# Altium integrated library Linear Technology Power Management uModule Regulators.IntLib: 166 symbols (part 49 of 67)
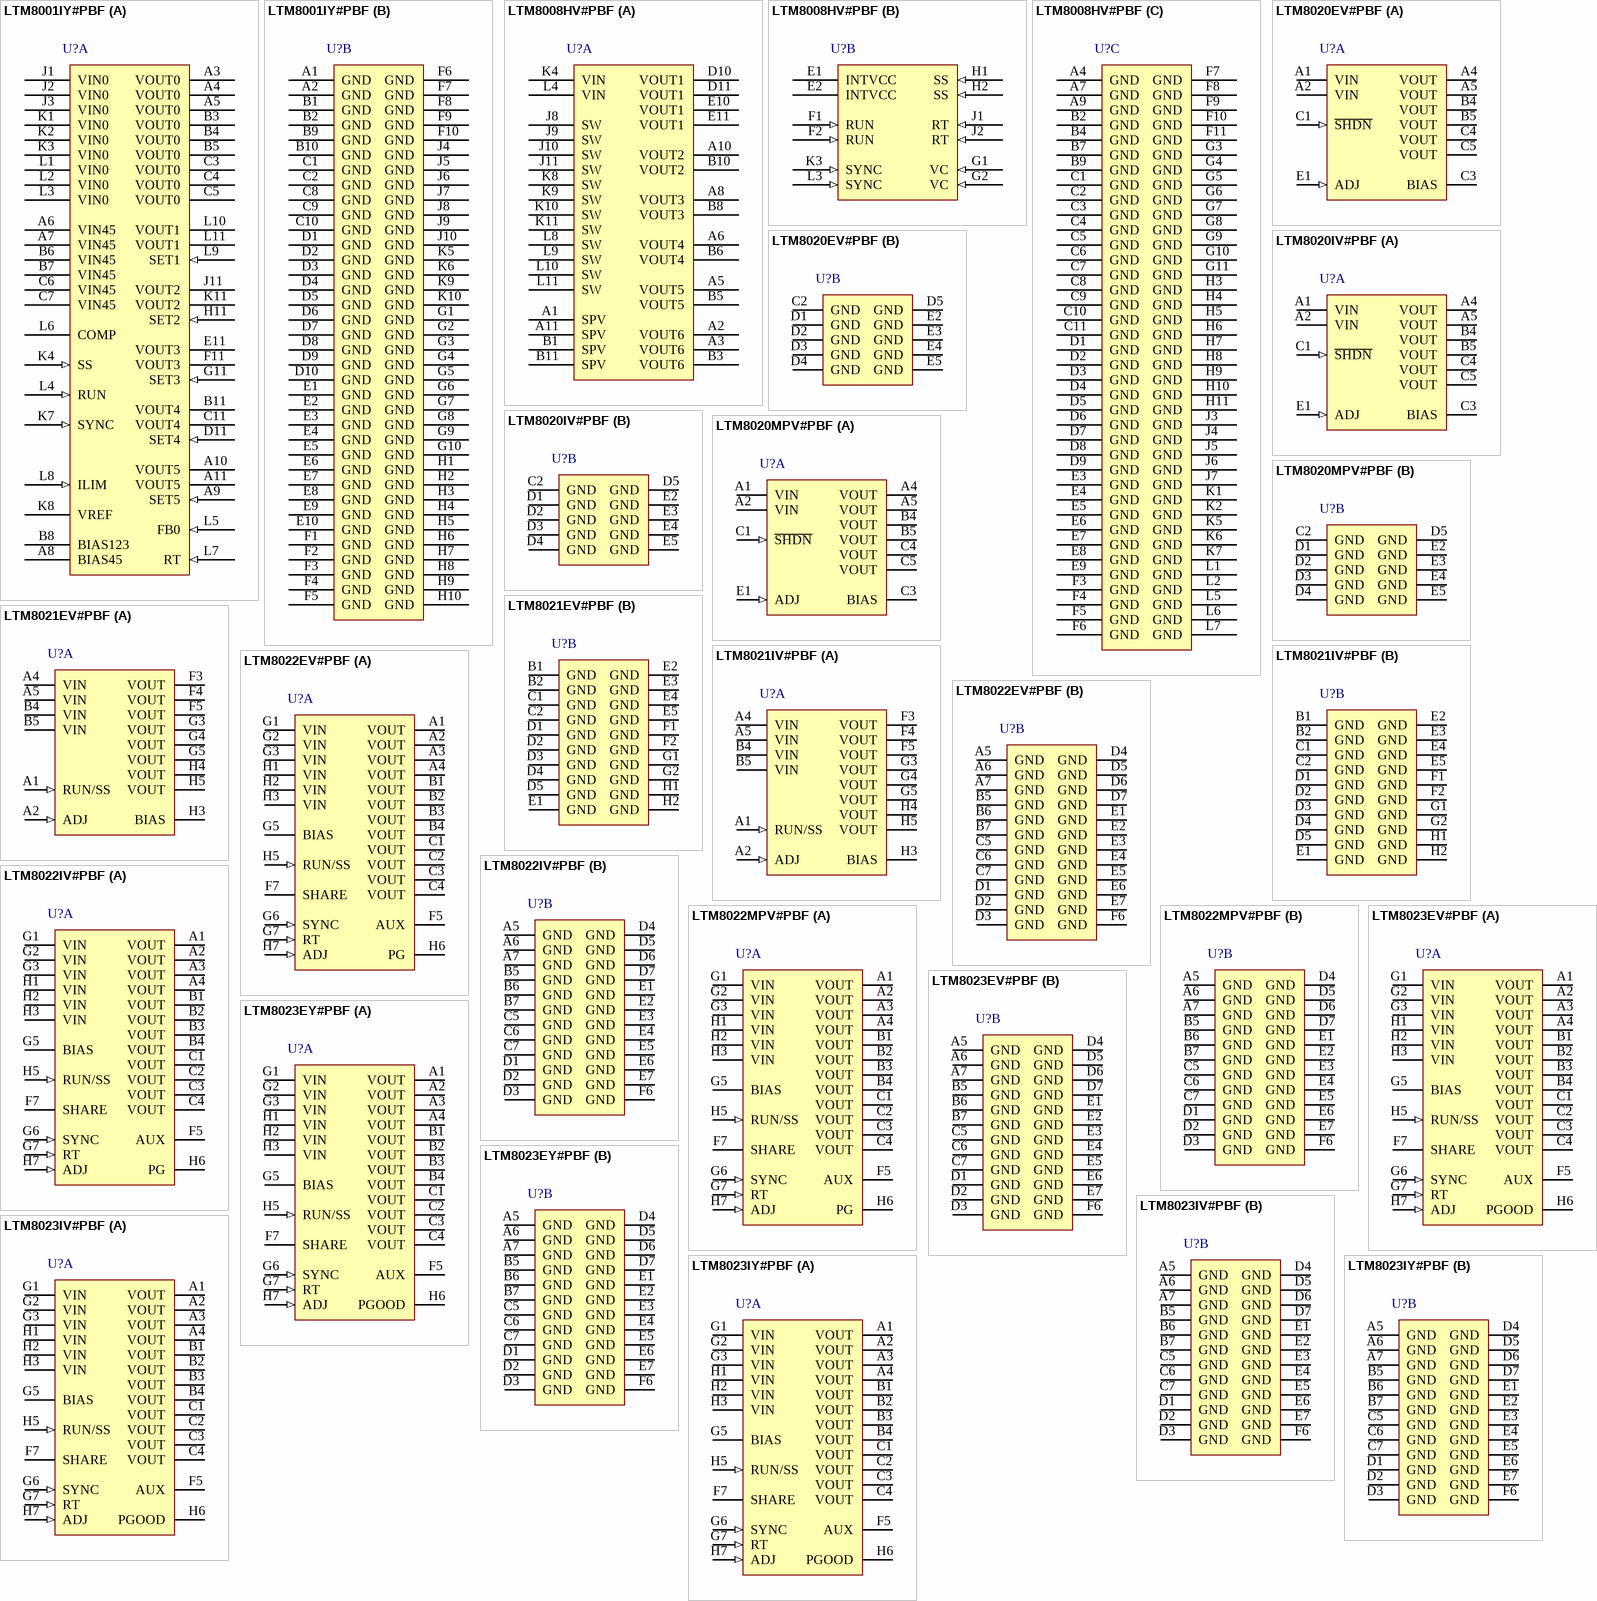
[diagram p75: symbols LTM8001IY#PBF to LTM8023IY#PBF]

## LTM8021EV#PBF
designator U?
36 VIN, 500 mA Step-Down DC/DC uModule, 35-pin LGA, -40 to 125 degC, Pb-Free, Tray; Manufacturer: Linear Technology; PartNumber: LTM8021EV#PBF; Extended Temp: E, I; Frequency(kHz): 1100; Ishutdown(uA): 0.1; Isupply(mA): 1.5; Number of Outputs: 1; Output Current(A): 0.5; Switch Current(A): 0.9; Synchronous: no; Topology: Buck; Vin Max(V): 36; Vin Min(V): 3; Vout Max(V): 5; Vout Min(V): 0.8; DatasheetVersion: Rev. C; PackageVersion: Rev. B, 02/2013; PackageReference: LGA-35; PackageDescription: 35-Pin LGA, Body 11.25 x 6.25 mm, Pitch 1.27 mm; Supplier 1: Digi-Key; Supplier Part Number 1: LTM8021EV#PBF-ND; Supplier 2: Farnell; Supplier Part Number 2: 1673558; Supplier 3: Newark; Supplier Part Number 3: 01P1603; Packing: Tray; RoHS: TRUE; Tracking: no; Mounting Technology: Surface Mount; Code_JEDEC: MO-222; ComponentLink1Description: Manufacturer URL; ComponentLink1URL: http://www.linear.com/; ComponentLink2Description: Datasheet; ComponentLink2URL: http://cds.linear.com/docs/en/datasheet/8021fc.pdf; ComponentLink3Description: Package Specification; ComponentLink3URL: http://cds.linear.com/docs/en/packaging/05081805_B_lga35.pdf
footprint LT-LGA-35-11250X6250X2820_V (LGA, 35-Leads, Body 11.25x6.25mm, Pitch 1.27mm)
part A pins: A1 RUN/SS (in) "Tie RUN/SS pin to ground to shut down the LTM8021. Tie to 1.6V or more for normal operation. If the shutdown feature is not used, tie this pin to the VIN pin. The RUN/SS also provides soft-start and frequency foldback. To (See Datasheet)", A2 ADJ (in) "The LTM8021 regulates its ADJ pin to 0.8V. Connect the adjust resistor from this pin to ground. The value of RADJ is given by the equation, RADJ = 80/(VOUT - 0.8), where RADJ is in k.", A4 VIN (power) "The VIN pin supplies current to the LTM8021’s internal regulator and to the internal power switch. This pin must be locally bypassed with an external, low ESR capacitor of at least 1uF.", A5 VIN (power) "The VIN pin supplies current to the LTM8021’s internal regulator and to the internal power switch. This pin must be locally bypassed with an external, low ESR capacitor of at least 1uF.", B4 VIN (power) "The VIN pin supplies current to the LTM8021’s internal regulator and to the internal power switch. This pin must be locally bypassed with an external, low ESR capacitor of at least 1uF.", B5 VIN (power) "The VIN pin supplies current to the LTM8021’s internal regulator and to the internal power switch. This pin must be locally bypassed with an external, low ESR capacitor of at least 1uF.", F3 VOUT (power) "Power Output Pins. An external capacitor is connected from VOUT to GND in most applications. Apply output load between these pins and GND pins.", F4 VOUT (power) "Power Output Pins. An external capacitor is connected from VOUT to GND in most applications. Apply output load between these pins and GND pins.", F5 VOUT (power) "Power Output Pins. An external capacitor is connected from VOUT to GND in most applications. Apply output load between these pins and GND pins.", G3 VOUT (power) "Power Output Pins. An external capacitor is connected from VOUT to GND in most applications. Apply output load between these pins and GND pins.", G4 VOUT (power) "Power Output Pins. An external capacitor is connected from VOUT to GND in most applications. Apply output load between these pins and GND pins.", G5 VOUT (power) "Power Output Pins. An external capacitor is connected from VOUT to GND in most applications. Apply output load between these pins and GND pins.", H3 BIAS (power) "The BIAS pin connects to the internal boost Schottky diode and to the internal regulator. Tie to VOUT when VOUT > 3V or to another DC voltage greater than 3V otherwise. When BIAS > 3V the internal circuitry will be powered (See Datasheet)", H4 VOUT (power) "Power Output Pins. An external capacitor is connected from VOUT to GND in most applications. Apply output load between these pins and GND pins.", H5 VOUT (power) "Power Output Pins. An external capacitor is connected from VOUT to GND in most applications. Apply output load between these pins and GND pins."
part B pins: B1 GND (power) "The GND connections serve as the main signal return and the primary heat sink for the LTM8021. Tie the GND pins to a local ground plane below the LTM8021 and the circuit components. Return the feedback divider to this signal.", B2 GND (power) "The GND connections serve as the main signal return and the primary heat sink for the LTM8021. Tie the GND pins to a local ground plane below the LTM8021 and the circuit components. Return the feedback divider to this signal.", C1 GND (power) "The GND connections serve as the main signal return and the primary heat sink for the LTM8021. Tie the GND pins to a local ground plane below the LTM8021 and the circuit components. Return the feedback divider to this signal.", C2 GND (power) "The GND connections serve as the main signal return and the primary heat sink for the LTM8021. Tie the GND pins to a local ground plane below the LTM8021 and the circuit components. Return the feedback divider to this signal.", D1 GND (power) "The GND connections serve as the main signal return and the primary heat sink for the LTM8021. Tie the GND pins to a local ground plane below the LTM8021 and the circuit components. Return the feedback divider to this signal.", D2 GND (power) "The GND connections serve as the main signal return and the primary heat sink for the LTM8021. Tie the GND pins to a local ground plane below the LTM8021 and the circuit components. Return the feedback divider to this signal.", D3 GND (power) "The GND connections serve as the main signal return and the primary heat sink for the LTM8021. Tie the GND pins to a local ground plane below the LTM8021 and the circuit components. Return the feedback divider to this signal.", D4 GND (power) "The GND connections serve as the main signal return and the primary heat sink for the LTM8021. Tie the GND pins to a local ground plane below the LTM8021 and the circuit components. Return the feedback divider to this signal.", D5 GND (power) "The GND connections serve as the main signal return and the primary heat sink for the LTM8021. Tie the GND pins to a local ground plane below the LTM8021 and the circuit components. Return the feedback divider to this signal.", E1 GND (power) "The GND connections serve as the main signal return and the primary heat sink for the LTM8021. Tie the GND pins to a local ground plane below the LTM8021 and the circuit components. Return the feedback divider to this signal.", E2 GND (power) "The GND connections serve as the main signal return and the primary heat sink for the LTM8021. Tie the GND pins to a local ground plane below the LTM8021 and the circuit components. Return the feedback divider to this signal.", E3 GND (power) "The GND connections serve as the main signal return and the primary heat sink for the LTM8021. Tie the GND pins to a local ground plane below the LTM8021 and the circuit components. Return the feedback divider to this signal.", E4 GND (power) "The GND connections serve as the main signal return and the primary heat sink for the LTM8021. Tie the GND pins to a local ground plane below the LTM8021 and the circuit components. Return the feedback divider to this signal.", E5 GND (power) "The GND connections serve as the main signal return and the primary heat sink for the LTM8021. Tie the GND pins to a local ground plane below the LTM8021 and the circuit components. Return the feedback divider to this signal.", F1 GND (power) "The GND connections serve as the main signal return and the primary heat sink for the LTM8021. Tie the GND pins to a local ground plane below the LTM8021 and the circuit components. Return the feedback divider to this signal.", F2 GND (power) "The GND connections serve as the main signal return and the primary heat sink for the LTM8021. Tie the GND pins to a local ground plane below the LTM8021 and the circuit components. Return the feedback divider to this signal.", G1 GND (power) "The GND connections serve as the main signal return and the primary heat sink for the LTM8021. Tie the GND pins to a local ground plane below the LTM8021 and the circuit components. Return the feedback divider to this signal.", G2 GND (power) "The GND connections serve as the main signal return and the primary heat sink for the LTM8021. Tie the GND pins to a local ground plane below the LTM8021 and the circuit components. Return the feedback divider to this signal.", H1 GND (power) "The GND connections serve as the main signal return and the primary heat sink for the LTM8021. Tie the GND pins to a local ground plane below the LTM8021 and the circuit components. Return the feedback divider to this signal.", H2 GND (power) "The GND connections serve as the main signal return and the primary heat sink for the LTM8021. Tie the GND pins to a local ground plane below the LTM8021 and the circuit components. Return the feedback divider to this signal."

## LTM8021IV#PBF
designator U?
36 VIN, 500 mA Step-Down DC/DC uModule, 35-pin LGA, -40 to 125 degC, Pb-Free, Tray; Manufacturer: Linear Technology; PartNumber: LTM8021IV#PBF; Extended Temp: E, I; Frequency(kHz): 1100; Ishutdown(uA): 0.1; Isupply(mA): 1.5; Number of Outputs: 1; Output Current(A): 0.5; Switch Current(A): 0.9; Synchronous: no; Topology: Buck; Vin Max(V): 36; Vin Min(V): 3; Vout Max(V): 5; Vout Min(V): 0.8; DatasheetVersion: Rev. C; PackageVersion: Rev. B, 02/2013; PackageReference: LGA-35; PackageDescription: 35-Pin LGA, Body 11.25 x 6.25 mm, Pitch 1.27 mm; Supplier 1: Digi-Key; Supplier Part Number 1: LTM8021IV#PBF-ND; Supplier 2: Farnell; Supplier Part Number 2: 1799825; Supplier 3: Newark; Supplier Part Number 3: 15N3618; Packing: Tray; RoHS: TRUE; Tracking: no; Mounting Technology: Surface Mount; Code_JEDEC: MO-222; ComponentLink1Description: Manufacturer URL; ComponentLink1URL: http://www.linear.com/; ComponentLink2Description: Datasheet; ComponentLink2URL: http://cds.linear.com/docs/en/datasheet/8021fc.pdf; ComponentLink3Description: Package Specification; ComponentLink3URL: http://cds.linear.com/docs/en/packaging/05081805_B_lga35.pdf
footprint LT-LGA-35-11250X6250X2820_V (LGA, 35-Leads, Body 11.25x6.25mm, Pitch 1.27mm)
part A pins: A1 RUN/SS (in) "Tie RUN/SS pin to ground to shut down the LTM8021. Tie to 1.6V or more for normal operation. If the shutdown feature is not used, tie this pin to the VIN pin. The RUN/SS also provides soft-start and frequency foldback. To (See Datasheet)", A2 ADJ (in) "The LTM8021 regulates its ADJ pin to 0.8V. Connect the adjust resistor from this pin to ground. The value of RADJ is given by the equation, RADJ = 80/(VOUT - 0.8), where RADJ is in k.", A4 VIN (power) "The VIN pin supplies current to the LTM8021’s internal regulator and to the internal power switch. This pin must be locally bypassed with an external, low ESR capacitor of at least 1uF.", A5 VIN (power) "The VIN pin supplies current to the LTM8021’s internal regulator and to the internal power switch. This pin must be locally bypassed with an external, low ESR capacitor of at least 1uF.", B4 VIN (power) "The VIN pin supplies current to the LTM8021’s internal regulator and to the internal power switch. This pin must be locally bypassed with an external, low ESR capacitor of at least 1uF.", B5 VIN (power) "The VIN pin supplies current to the LTM8021’s internal regulator and to the internal power switch. This pin must be locally bypassed with an external, low ESR capacitor of at least 1uF.", F3 VOUT (power) "Power Output Pins. An external capacitor is connected from VOUT to GND in most applications. Apply output load between these pins and GND pins.", F4 VOUT (power) "Power Output Pins. An external capacitor is connected from VOUT to GND in most applications. Apply output load between these pins and GND pins.", F5 VOUT (power) "Power Output Pins. An external capacitor is connected from VOUT to GND in most applications. Apply output load between these pins and GND pins.", G3 VOUT (power) "Power Output Pins. An external capacitor is connected from VOUT to GND in most applications. Apply output load between these pins and GND pins.", G4 VOUT (power) "Power Output Pins. An external capacitor is connected from VOUT to GND in most applications. Apply output load between these pins and GND pins.", G5 VOUT (power) "Power Output Pins. An external capacitor is connected from VOUT to GND in most applications. Apply output load between these pins and GND pins.", H3 BIAS (power) "The BIAS pin connects to the internal boost Schottky diode and to the internal regulator. Tie to VOUT when VOUT > 3V or to another DC voltage greater than 3V otherwise. When BIAS > 3V the internal circuitry will be powered (See Datasheet)", H4 VOUT (power) "Power Output Pins. An external capacitor is connected from VOUT to GND in most applications. Apply output load between these pins and GND pins.", H5 VOUT (power) "Power Output Pins. An external capacitor is connected from VOUT to GND in most applications. Apply output load between these pins and GND pins."
part B pins: B1 GND (power) "The GND connections serve as the main signal return and the primary heat sink for the LTM8021. Tie the GND pins to a local ground plane below the LTM8021 and the circuit components. Return the feedback divider to this signal.", B2 GND (power) "The GND connections serve as the main signal return and the primary heat sink for the LTM8021. Tie the GND pins to a local ground plane below the LTM8021 and the circuit components. Return the feedback divider to this signal.", C1 GND (power) "The GND connections serve as the main signal return and the primary heat sink for the LTM8021. Tie the GND pins to a local ground plane below the LTM8021 and the circuit components. Return the feedback divider to this signal.", C2 GND (power) "The GND connections serve as the main signal return and the primary heat sink for the LTM8021. Tie the GND pins to a local ground plane below the LTM8021 and the circuit components. Return the feedback divider to this signal.", D1 GND (power) "The GND connections serve as the main signal return and the primary heat sink for the LTM8021. Tie the GND pins to a local ground plane below the LTM8021 and the circuit components. Return the feedback divider to this signal.", D2 GND (power) "The GND connections serve as the main signal return and the primary heat sink for the LTM8021. Tie the GND pins to a local ground plane below the LTM8021 and the circuit components. Return the feedback divider to this signal.", D3 GND (power) "The GND connections serve as the main signal return and the primary heat sink for the LTM8021. Tie the GND pins to a local ground plane below the LTM8021 and the circuit components. Return the feedback divider to this signal.", D4 GND (power) "The GND connections serve as the main signal return and the primary heat sink for the LTM8021. Tie the GND pins to a local ground plane below the LTM8021 and the circuit components. Return the feedback divider to this signal.", D5 GND (power) "The GND connections serve as the main signal return and the primary heat sink for the LTM8021. Tie the GND pins to a local ground plane below the LTM8021 and the circuit components. Return the feedback divider to this signal.", E1 GND (power) "The GND connections serve as the main signal return and the primary heat sink for the LTM8021. Tie the GND pins to a local ground plane below the LTM8021 and the circuit components. Return the feedback divider to this signal.", E2 GND (power) "The GND connections serve as the main signal return and the primary heat sink for the LTM8021. Tie the GND pins to a local ground plane below the LTM8021 and the circuit components. Return the feedback divider to this signal.", E3 GND (power) "The GND connections serve as the main signal return and the primary heat sink for the LTM8021. Tie the GND pins to a local ground plane below the LTM8021 and the circuit components. Return the feedback divider to this signal.", E4 GND (power) "The GND connections serve as the main signal return and the primary heat sink for the LTM8021. Tie the GND pins to a local ground plane below the LTM8021 and the circuit components. Return the feedback divider to this signal.", E5 GND (power) "The GND connections serve as the main signal return and the primary heat sink for the LTM8021. Tie the GND pins to a local ground plane below the LTM8021 and the circuit components. Return the feedback divider to this signal.", F1 GND (power) "The GND connections serve as the main signal return and the primary heat sink for the LTM8021. Tie the GND pins to a local ground plane below the LTM8021 and the circuit components. Return the feedback divider to this signal.", F2 GND (power) "The GND connections serve as the main signal return and the primary heat sink for the LTM8021. Tie the GND pins to a local ground plane below the LTM8021 and the circuit components. Return the feedback divider to this signal.", G1 GND (power) "The GND connections serve as the main signal return and the primary heat sink for the LTM8021. Tie the GND pins to a local ground plane below the LTM8021 and the circuit components. Return the feedback divider to this signal.", G2 GND (power) "The GND connections serve as the main signal return and the primary heat sink for the LTM8021. Tie the GND pins to a local ground plane below the LTM8021 and the circuit components. Return the feedback divider to this signal.", H1 GND (power) "The GND connections serve as the main signal return and the primary heat sink for the LTM8021. Tie the GND pins to a local ground plane below the LTM8021 and the circuit components. Return the feedback divider to this signal.", H2 GND (power) "The GND connections serve as the main signal return and the primary heat sink for the LTM8021. Tie the GND pins to a local ground plane below the LTM8021 and the circuit components. Return the feedback divider to this signal."

## LTM8022EV#PBF
designator U?
1 A, 36 V DC/DC uModule, 50-pin LGA, -40 to 85 degC, Pb-Free, Tray; Manufacturer: Linear Technology; PartNumber: LTM8022EV#PBF; Extended Temp: E, MP; Frequency Adjust Range: 200kHz - 2.4MHz; Frequency Sync Range: 250kHz - 2MHz; Frequency(kHz): 2400; Ishutdown(uA): 1; Isupply(mA): 0.085; Switch Current(A): 2; Synchronous: no; Topology: Buck; Vin Max(V): 36; Vin Min(V): 3.6; Vout Max(V): 10; Vout Min(V): 0.8; DatasheetVersion: Rev. D; PackageVersion: Rev. C, 02/2013; PackageReference: LGA-50; PackageDescription: 50-Pin LGA, Body 11.25 x 9 mm, Pitch 1.27 mm; Supplier 1: Digi-Key; Supplier Part Number 1: LTM8022EV#PBF-ND; Supplier 2: Farnell; Supplier Part Number 2: 1799826; Supplier 3: Newark; Supplier Part Number 3: 79M3639; Number of Outputs: 1; Output Current(A): 1; Packing: Tray; RoHS: TRUE; Tracking: no; Mounting Technology: Surface Mount; Code_JEDEC: MO-222; ComponentLink1Description: Manufacturer URL; ComponentLink1URL: http://www.linear.com/; ComponentLink2Description: Datasheet; ComponentLink2URL: http://cds.linear.com/docs/en/datasheet/8022fd.pdf; ComponentLink3Description: Package Specification; ComponentLink3URL: http://cds.linear.com/docs/en/packaging/05081804_C_lga50.pdf
footprint LT-LGA-50-05-08-1804_V (LGA, 50-Leads, Body 11.25x9mm, Pitch 1.27mm)
part A pins: A1 VOUT (power) "Power Output Pins. Apply the output ?lter capacitor and the output load between these pins and GND pins.", A2 VOUT (power) "Power Output Pins. Apply the output ?lter capacitor and the output load between these pins and GND pins.", A3 VOUT (power) "Power Output Pins. Apply the output ?lter capacitor and the output load between these pins and GND pins.", A4 VOUT (power) "Power Output Pins. Apply the output ?lter capacitor and the output load between these pins and GND pins.", B1 VOUT (power) "Power Output Pins. Apply the output ?lter capacitor and the output load between these pins and GND pins.", B2 VOUT (power) "Power Output Pins. Apply the output ?lter capacitor and the output load between these pins and GND pins.", B3 VOUT (power) "Power Output Pins. Apply the output ?lter capacitor and the output load between these pins and GND pins.", B4 VOUT (power) "Power Output Pins. Apply the output ?lter capacitor and the output load between these pins and GND pins.", C1 VOUT (power) "Power Output Pins. Apply the output ?lter capacitor and the output load between these pins and GND pins.", C2 VOUT (power) "Power Output Pins. Apply the output ?lter capacitor and the output load between these pins and GND pins.", C3 VOUT (power) "Power Output Pins. Apply the output ?lter capacitor and the output load between these pins and GND pins.", C4 VOUT (power) "Power Output Pins. Apply the output ?lter capacitor and the output load between these pins and GND pins.", F5 AUX (power) "Low current voltage source for BIAS. In many designs, the BIAS pin is simply connected to VOUT. The AUX pin is internally connected to VOUT and is placed adjacent to the BIAS pin to ease printed circuit board routing. (See Datasheet)", F7 SHARE "Tie this to the SHARE pin of another LTM8022 when paralleling the outputs. Otherwise, leave this pin ?oating.", G1 VIN (power) "The VIN pin supplies current to the LTM8022’s internal regulator and to the internal power switch. This pin must be locally bypassed with an external, low ESR capacitor of at least 2.2uF.", G2 VIN (power) "The VIN pin supplies current to the LTM8022’s internal regulator and to the internal power switch. This pin must be locally bypassed with an external, low ESR capacitor of at least 2.2uF.", G3 VIN (power) "The VIN pin supplies current to the LTM8022’s internal regulator and to the internal power switch. This pin must be locally bypassed with an external, low ESR capacitor of at least 2.2uF.", G5 BIAS (power) "The BIAS pin connects to the internal power bus. Connect to a power source greater than 2.4V. If the output is greater than 2.4V, connect this pin there. If the output voltage is less, connect this to a voltage source (See Datasheet)", G6 SYNC (in) "External Clock Synchronization Input. Ground this pin for low ripple Burst Mode(R) operation at low output loads, or connect to a stable voltage source above 0.7V to disable Burst Mode operation. Do not leave this pin (See Datasheet)", G7 RT (in) "The RT pin is used to program the switching frequency of the LTM8022 by connecting a resistor from this pin to ground. The Applications Information section of the data sheet includes a table to determine the resistance value (See Datasheet)", H1 VIN (power) "The VIN pin supplies current to the LTM8022’s internal regulator and to the internal power switch. This pin must be locally bypassed with an external, low ESR capacitor of at least 2.2uF.", H2 VIN (power) "The VIN pin supplies current to the LTM8022’s internal regulator and to the internal power switch. This pin must be locally bypassed with an external, low ESR capacitor of at least 2.2uF.", H3 VIN (power) "The VIN pin supplies current to the LTM8022’s internal regulator and to the internal power switch. This pin must be locally bypassed with an external, low ESR capacitor of at least 2.2uF.", H5 RUN/SS (in) "Tie RUN/SS pin to ground to shut down the LTM8022. Tie to 2.5V or more for normal operation. If the shutdown feature is not used, tie this pin to the VIN pin. RUN/SS also provides a soft-start function; see the Applications (See Datasheet)", H6 PG (oc) "Open Collector Output of an Internal Comparator. PG remains low until the ADJ pin is within 10% of the ? nal regulation voltage. PG output is valid when VIN is above 3.6V and RUN/SS is high. If this function is not used(See Datasheet)", H7 ADJ (in) "The LTM8022 regulates its ADJ pin to 0.79V. Connect the adjust resistor from this pin to ground. The value of RADJ is given by the equation, RADJ = 394.21/(VOUT -0.79), where RADJ is in kohm."
part B pins: A5 GND (power) "Tie these GND pins to a local ground plane below the LTM8022 and the circuit components. Return the feedback divider (RADJ) to this pin.", A6 GND (power) "Tie these GND pins to a local ground plane below the LTM8022 and the circuit components. Return the feedback divider (RADJ) to this pin.", A7 GND (power) "Tie these GND pins to a local ground plane below the LTM8022 and the circuit components. Return the feedback divider (RADJ) to this pin.", B5 GND (power) "Tie these GND pins to a local ground plane below the LTM8022 and the circuit components. Return the feedback divider (RADJ) to this pin.", B6 GND (power) "Tie these GND pins to a local ground plane below the LTM8022 and the circuit components. Return the feedback divider (RADJ) to this pin.", B7 GND (power) "Tie these GND pins to a local ground plane below the LTM8022 and the circuit components. Return the feedback divider (RADJ) to this pin.", C5 GND (power) "Tie these GND pins to a local ground plane below the LTM8022 and the circuit components. Return the feedback divider (RADJ) to this pin.", C6 GND (power) "Tie these GND pins to a local ground plane below the LTM8022 and the circuit components. Return the feedback divider (RADJ) to this pin.", C7 GND (power) "Tie these GND pins to a local ground plane below the LTM8022 and the circuit components. Return the feedback divider (RADJ) to this pin.", D1 GND (power) "Tie these GND pins to a local ground plane below the LTM8022 and the circuit components. Return the feedback divider (RADJ) to this pin.", D2 GND (power) "Tie these GND pins to a local ground plane below the LTM8022 and the circuit components. Return the feedback divider (RADJ) to this pin.", D3 GND (power) "Tie these GND pins to a local ground plane below the LTM8022 and the circuit components. Return the feedback divider (RADJ) to this pin.", D4 GND (power) "Tie these GND pins to a local ground plane below the LTM8022 and the circuit components. Return the feedback divider (RADJ) to this pin.", D5 GND (power) "Tie these GND pins to a local ground plane below the LTM8022 and the circuit components. Return the feedback divider (RADJ) to this pin.", D6 GND (power) "Tie these GND pins to a local ground plane below the LTM8022 and the circuit components. Return the feedback divider (RADJ) to this pin.", D7 GND (power) "Tie these GND pins to a local ground plane below the LTM8022 and the circuit components. Return the feedback divider (RADJ) to this pin.", E1 GND (power) "Tie these GND pins to a local ground plane below the LTM8022 and the circuit components. Return the feedback divider (RADJ) to this pin.", E2 GND (power) "Tie these GND pins to a local ground plane below the LTM8022 and the circuit components. Return the feedback divider (RADJ) to this pin.", E3 GND (power) "Tie these GND pins to a local ground plane below the LTM8022 and the circuit components. Return the feedback divider (RADJ) to this pin.", E4 GND (power) "Tie these GND pins to a local ground plane below the LTM8022 and the circuit components. Return the feedback divider (RADJ) to this pin.", E5 GND (power) "Tie these GND pins to a local ground plane below the LTM8022 and the circuit components. Return the feedback divider (RADJ) to this pin.", E6 GND (power) "Tie these GND pins to a local ground plane below the LTM8022 and the circuit components. Return the feedback divider (RADJ) to this pin.", E7 GND (power) "Tie these GND pins to a local ground plane below the LTM8022 and the circuit components. Return the feedback divider (RADJ) to this pin.", F6 GND (power) "Tie these GND pins to a local ground plane below the LTM8022 and the circuit components. Return the feedback divider (RADJ) to this pin."

## LTM8022IV#PBF
designator U?
1 A, 36 V DC/DC uModule, 50-pin LGA, -40 to 85 degC, Pb-Free, Tray; Manufacturer: Linear Technology; PartNumber: LTM8022IV#PBF; Extended Temp: E, MP; Frequency Adjust Range: 200kHz - 2.4MHz; Frequency Sync Range: 250kHz - 2MHz; Frequency(kHz): 2400; Ishutdown(uA): 1; Isupply(mA): 0.085; Switch Current(A): 2; Synchronous: no; Topology: Buck; Vin Max(V): 36; Vin Min(V): 3.6; Vout Max(V): 10; Vout Min(V): 0.8; DatasheetVersion: Rev. D; PackageVersion: Rev. C, 02/2013; PackageReference: LGA-50; PackageDescription: 50-Pin LGA, Body 11.25 x 9 mm, Pitch 1.27 mm; Supplier 1: Digi-Key; Supplier Part Number 1: LTM8022IV#PBF-ND; Supplier 2: Farnell; Supplier Part Number 2: 2115891; Supplier 3: Newark; Supplier Part Number 3: 02P7639; Number of Outputs: 1; Output Current(A): 1; Packing: Tray; RoHS: TRUE; Tracking: no; Mounting Technology: Surface Mount; Code_JEDEC: MO-222; ComponentLink1Description: Manufacturer URL; ComponentLink1URL: http://www.linear.com/; ComponentLink2Description: Datasheet; ComponentLink2URL: http://cds.linear.com/docs/en/datasheet/8022fd.pdf; ComponentLink3Description: Package Specification; ComponentLink3URL: http://cds.linear.com/docs/en/packaging/05081804_C_lga50.pdf
footprint LT-LGA-50-05-08-1804_V (LGA, 50-Leads, Body 11.25x9mm, Pitch 1.27mm)
part A pins: A1 VOUT (power) "Power Output Pins. Apply the output ?lter capacitor and the output load between these pins and GND pins.", A2 VOUT (power) "Power Output Pins. Apply the output ?lter capacitor and the output load between these pins and GND pins.", A3 VOUT (power) "Power Output Pins. Apply the output ?lter capacitor and the output load between these pins and GND pins.", A4 VOUT (power) "Power Output Pins. Apply the output ?lter capacitor and the output load between these pins and GND pins.", B1 VOUT (power) "Power Output Pins. Apply the output ?lter capacitor and the output load between these pins and GND pins.", B2 VOUT (power) "Power Output Pins. Apply the output ?lter capacitor and the output load between these pins and GND pins.", B3 VOUT (power) "Power Output Pins. Apply the output ?lter capacitor and the output load between these pins and GND pins.", B4 VOUT (power) "Power Output Pins. Apply the output ?lter capacitor and the output load between these pins and GND pins.", C1 VOUT (power) "Power Output Pins. Apply the output ?lter capacitor and the output load between these pins and GND pins.", C2 VOUT (power) "Power Output Pins. Apply the output ?lter capacitor and the output load between these pins and GND pins.", C3 VOUT (power) "Power Output Pins. Apply the output ?lter capacitor and the output load between these pins and GND pins.", C4 VOUT (power) "Power Output Pins. Apply the output ?lter capacitor and the output load between these pins and GND pins.", F5 AUX (power) "Low current voltage source for BIAS. In many designs, the BIAS pin is simply connected to VOUT. The AUX pin is internally connected to VOUT and is placed adjacent to the BIAS pin to ease printed circuit board routing. (See Datasheet)", F7 SHARE "Tie this to the SHARE pin of another LTM8022 when paralleling the outputs. Otherwise, leave this pin ?oating.", G1 VIN (power) "The VIN pin supplies current to the LTM8022’s internal regulator and to the internal power switch. This pin must be locally bypassed with an external, low ESR capacitor of at least 2.2uF.", G2 VIN (power) "The VIN pin supplies current to the LTM8022’s internal regulator and to the internal power switch. This pin must be locally bypassed with an external, low ESR capacitor of at least 2.2uF.", G3 VIN (power) "The VIN pin supplies current to the LTM8022’s internal regulator and to the internal power switch. This pin must be locally bypassed with an external, low ESR capacitor of at least 2.2uF.", G5 BIAS (power) "The BIAS pin connects to the internal power bus. Connect to a power source greater than 2.4V. If the output is greater than 2.4V, connect this pin there. If the output voltage is less, connect this to a voltage source (See Datasheet)", G6 SYNC (in) "External Clock Synchronization Input. Ground this pin for low ripple Burst Mode(R) operation at low output loads, or connect to a stable voltage source above 0.7V to disable Burst Mode operation. Do not leave this pin (See Datasheet)", G7 RT (in) "The RT pin is used to program the switching frequency of the LTM8022 by connecting a resistor from this pin to ground. The Applications Information section of the data sheet includes a table to determine the resistance value (See Datasheet)", H1 VIN (power) "The VIN pin supplies current to the LTM8022’s internal regulator and to the internal power switch. This pin must be locally bypassed with an external, low ESR capacitor of at least 2.2uF.", H2 VIN (power) "The VIN pin supplies current to the LTM8022’s internal regulator and to the internal power switch. This pin must be locally bypassed with an external, low ESR capacitor of at least 2.2uF.", H3 VIN (power) "The VIN pin supplies current to the LTM8022’s internal regulator and to the internal power switch. This pin must be locally bypassed with an external, low ESR capacitor of at least 2.2uF.", H5 RUN/SS (in) "Tie RUN/SS pin to ground to shut down the LTM8022. Tie to 2.5V or more for normal operation. If the shutdown feature is not used, tie this pin to the VIN pin. RUN/SS also provides a soft-start function; see the Applications (See Datasheet)", H6 PG (oc) "Open Collector Output of an Internal Comparator. PG remains low until the ADJ pin is within 10% of the ? nal regulation voltage. PG output is valid when VIN is above 3.6V and RUN/SS is high. If this function is not used(See Datasheet)", H7 ADJ (in) "The LTM8022 regulates its ADJ pin to 0.79V. Connect the adjust resistor from this pin to ground. The value of RADJ is given by the equation, RADJ = 394.21/(VOUT -0.79), where RADJ is in kohm."
part B pins: A5 GND (power) "Tie these GND pins to a local ground plane below the LTM8022 and the circuit components. Return the feedback divider (RADJ) to this pin.", A6 GND (power) "Tie these GND pins to a local ground plane below the LTM8022 and the circuit components. Return the feedback divider (RADJ) to this pin.", A7 GND (power) "Tie these GND pins to a local ground plane below the LTM8022 and the circuit components. Return the feedback divider (RADJ) to this pin.", B5 GND (power) "Tie these GND pins to a local ground plane below the LTM8022 and the circuit components. Return the feedback divider (RADJ) to this pin.", B6 GND (power) "Tie these GND pins to a local ground plane below the LTM8022 and the circuit components. Return the feedback divider (RADJ) to this pin.", B7 GND (power) "Tie these GND pins to a local ground plane below the LTM8022 and the circuit components. Return the feedback divider (RADJ) to this pin.", C5 GND (power) "Tie these GND pins to a local ground plane below the LTM8022 and the circuit components. Return the feedback divider (RADJ) to this pin.", C6 GND (power) "Tie these GND pins to a local ground plane below the LTM8022 and the circuit components. Return the feedback divider (RADJ) to this pin.", C7 GND (power) "Tie these GND pins to a local ground plane below the LTM8022 and the circuit components. Return the feedback divider (RADJ) to this pin.", D1 GND (power) "Tie these GND pins to a local ground plane below the LTM8022 and the circuit components. Return the feedback divider (RADJ) to this pin.", D2 GND (power) "Tie these GND pins to a local ground plane below the LTM8022 and the circuit components. Return the feedback divider (RADJ) to this pin.", D3 GND (power) "Tie these GND pins to a local ground plane below the LTM8022 and the circuit components. Return the feedback divider (RADJ) to this pin.", D4 GND (power) "Tie these GND pins to a local ground plane below the LTM8022 and the circuit components. Return the feedback divider (RADJ) to this pin.", D5 GND (power) "Tie these GND pins to a local ground plane below the LTM8022 and the circuit components. Return the feedback divider (RADJ) to this pin.", D6 GND (power) "Tie these GND pins to a local ground plane below the LTM8022 and the circuit components. Return the feedback divider (RADJ) to this pin.", D7 GND (power) "Tie these GND pins to a local ground plane below the LTM8022 and the circuit components. Return the feedback divider (RADJ) to this pin.", E1 GND (power) "Tie these GND pins to a local ground plane below the LTM8022 and the circuit components. Return the feedback divider (RADJ) to this pin.", E2 GND (power) "Tie these GND pins to a local ground plane below the LTM8022 and the circuit components. Return the feedback divider (RADJ) to this pin.", E3 GND (power) "Tie these GND pins to a local ground plane below the LTM8022 and the circuit components. Return the feedback divider (RADJ) to this pin.", E4 GND (power) "Tie these GND pins to a local ground plane below the LTM8022 and the circuit components. Return the feedback divider (RADJ) to this pin.", E5 GND (power) "Tie these GND pins to a local ground plane below the LTM8022 and the circuit components. Return the feedback divider (RADJ) to this pin.", E6 GND (power) "Tie these GND pins to a local ground plane below the LTM8022 and the circuit components. Return the feedback divider (RADJ) to this pin.", E7 GND (power) "Tie these GND pins to a local ground plane below the LTM8022 and the circuit components. Return the feedback divider (RADJ) to this pin.", F6 GND (power) "Tie these GND pins to a local ground plane below the LTM8022 and the circuit components. Return the feedback divider (RADJ) to this pin."

## LTM8022MPV#PBF
designator U?
1 A, 36 V DC/DC uModule, 50-pin LGA, -55 to 125 degC, Pb-Free, Tray; Manufacturer: Linear Technology; PartNumber: LTM8022MPV#PBF; Extended Temp: E, MP; Frequency Adjust Range: 200kHz - 2.4MHz; Frequency Sync Range: 250kHz - 2MHz; Frequency(kHz): 2400; Ishutdown(uA): 1; Isupply(mA): 0.085; Switch Current(A): 2; Synchronous: no; Topology: Buck; Vin Max(V): 36; Vin Min(V): 3.6; Vout Max(V): 10; Vout Min(V): 0.8; DatasheetVersion: Rev. D; PackageVersion: Rev. C, 02/2013; PackageReference: LGA-50; PackageDescription: 50-Pin LGA, Body 11.25 x 9 mm, Pitch 1.27 mm; Supplier 1: Digi-Key; Supplier Part Number 1: LTM8022MPV#PBF-ND; Supplier 2: Farnell; Supplier Part Number 2: 2308405; Supplier 3: Newark; Supplier Part Number 3: 19P9345; Number of Outputs: 1; Output Current(A): 1; Packing: Tray; RoHS: TRUE; Tracking: no; Mounting Technology: Surface Mount; Code_JEDEC: MO-222; ComponentLink1Description: Manufacturer URL; ComponentLink1URL: http://www.linear.com/; ComponentLink2Description: Datasheet; ComponentLink2URL: http://cds.linear.com/docs/en/datasheet/8022fd.pdf; ComponentLink3Description: Package Specification; ComponentLink3URL: http://cds.linear.com/docs/en/packaging/05081804_C_lga50.pdf
footprint LT-LGA-50-05-08-1804_V (LGA, 50-Leads, Body 11.25x9mm, Pitch 1.27mm)
part A pins: A1 VOUT (power) "Power Output Pins. Apply the output ?lter capacitor and the output load between these pins and GND pins.", A2 VOUT (power) "Power Output Pins. Apply the output ?lter capacitor and the output load between these pins and GND pins.", A3 VOUT (power) "Power Output Pins. Apply the output ?lter capacitor and the output load between these pins and GND pins.", A4 VOUT (power) "Power Output Pins. Apply the output ?lter capacitor and the output load between these pins and GND pins.", B1 VOUT (power) "Power Output Pins. Apply the output ?lter capacitor and the output load between these pins and GND pins.", B2 VOUT (power) "Power Output Pins. Apply the output ?lter capacitor and the output load between these pins and GND pins.", B3 VOUT (power) "Power Output Pins. Apply the output ?lter capacitor and the output load between these pins and GND pins.", B4 VOUT (power) "Power Output Pins. Apply the output ?lter capacitor and the output load between these pins and GND pins.", C1 VOUT (power) "Power Output Pins. Apply the output ?lter capacitor and the output load between these pins and GND pins.", C2 VOUT (power) "Power Output Pins. Apply the output ?lter capacitor and the output load between these pins and GND pins.", C3 VOUT (power) "Power Output Pins. Apply the output ?lter capacitor and the output load between these pins and GND pins.", C4 VOUT (power) "Power Output Pins. Apply the output ?lter capacitor and the output load between these pins and GND pins.", F5 AUX (power) "Low current voltage source for BIAS. In many designs, the BIAS pin is simply connected to VOUT. The AUX pin is internally connected to VOUT and is placed adjacent to the BIAS pin to ease printed circuit board routing. (See Datasheet)", F7 SHARE "Tie this to the SHARE pin of another LTM8022 when paralleling the outputs. Otherwise, leave this pin ?oating.", G1 VIN (power) "The VIN pin supplies current to the LTM8022’s internal regulator and to the internal power switch. This pin must be locally bypassed with an external, low ESR capacitor of at least 2.2uF.", G2 VIN (power) "The VIN pin supplies current to the LTM8022’s internal regulator and to the internal power switch. This pin must be locally bypassed with an external, low ESR capacitor of at least 2.2uF.", G3 VIN (power) "The VIN pin supplies current to the LTM8022’s internal regulator and to the internal power switch. This pin must be locally bypassed with an external, low ESR capacitor of at least 2.2uF.", G5 BIAS (power) "The BIAS pin connects to the internal power bus. Connect to a power source greater than 2.4V. If the output is greater than 2.4V, connect this pin there. If the output voltage is less, connect this to a voltage source (See Datasheet)", G6 SYNC (in) "External Clock Synchronization Input. Ground this pin for low ripple Burst Mode(R) operation at low output loads, or connect to a stable voltage source above 0.7V to disable Burst Mode operation. Do not leave this pin (See Datasheet)", G7 RT (in) "The RT pin is used to program the switching frequency of the LTM8022 by connecting a resistor from this pin to ground. The Applications Information section of the data sheet includes a table to determine the resistance value (See Datasheet)", H1 VIN (power) "The VIN pin supplies current to the LTM8022’s internal regulator and to the internal power switch. This pin must be locally bypassed with an external, low ESR capacitor of at least 2.2uF.", H2 VIN (power) "The VIN pin supplies current to the LTM8022’s internal regulator and to the internal power switch. This pin must be locally bypassed with an external, low ESR capacitor of at least 2.2uF.", H3 VIN (power) "The VIN pin supplies current to the LTM8022’s internal regulator and to the internal power switch. This pin must be locally bypassed with an external, low ESR capacitor of at least 2.2uF.", H5 RUN/SS (in) "Tie RUN/SS pin to ground to shut down the LTM8022. Tie to 2.5V or more for normal operation. If the shutdown feature is not used, tie this pin to the VIN pin. RUN/SS also provides a soft-start function; see the Applications (See Datasheet)", H6 PG (oc) "Open Collector Output of an Internal Comparator. PG remains low until the ADJ pin is within 10% of the ? nal regulation voltage. PG output is valid when VIN is above 3.6V and RUN/SS is high. If this function is not used(See Datasheet)", H7 ADJ (in) "The LTM8022 regulates its ADJ pin to 0.79V. Connect the adjust resistor from this pin to ground. The value of RADJ is given by the equation, RADJ = 394.21/(VOUT -0.79), where RADJ is in kohm."
part B pins: A5 GND (power) "Tie these GND pins to a local ground plane below the LTM8022 and the circuit components. Return the feedback divider (RADJ) to this pin.", A6 GND (power) "Tie these GND pins to a local ground plane below the LTM8022 and the circuit components. Return the feedback divider (RADJ) to this pin.", A7 GND (power) "Tie these GND pins to a local ground plane below the LTM8022 and the circuit components. Return the feedback divider (RADJ) to this pin.", B5 GND (power) "Tie these GND pins to a local ground plane below the LTM8022 and the circuit components. Return the feedback divider (RADJ) to this pin.", B6 GND (power) "Tie these GND pins to a local ground plane below the LTM8022 and the circuit components. Return the feedback divider (RADJ) to this pin.", B7 GND (power) "Tie these GND pins to a local ground plane below the LTM8022 and the circuit components. Return the feedback divider (RADJ) to this pin.", C5 GND (power) "Tie these GND pins to a local ground plane below the LTM8022 and the circuit components. Return the feedback divider (RADJ) to this pin.", C6 GND (power) "Tie these GND pins to a local ground plane below the LTM8022 and the circuit components. Return the feedback divider (RADJ) to this pin.", C7 GND (power) "Tie these GND pins to a local ground plane below the LTM8022 and the circuit components. Return the feedback divider (RADJ) to this pin.", D1 GND (power) "Tie these GND pins to a local ground plane below the LTM8022 and the circuit components. Return the feedback divider (RADJ) to this pin.", D2 GND (power) "Tie these GND pins to a local ground plane below the LTM8022 and the circuit components. Return the feedback divider (RADJ) to this pin.", D3 GND (power) "Tie these GND pins to a local ground plane below the LTM8022 and the circuit components. Return the feedback divider (RADJ) to this pin.", D4 GND (power) "Tie these GND pins to a local ground plane below the LTM8022 and the circuit components. Return the feedback divider (RADJ) to this pin.", D5 GND (power) "Tie these GND pins to a local ground plane below the LTM8022 and the circuit components. Return the feedback divider (RADJ) to this pin.", D6 GND (power) "Tie these GND pins to a local ground plane below the LTM8022 and the circuit components. Return the feedback divider (RADJ) to this pin.", D7 GND (power) "Tie these GND pins to a local ground plane below the LTM8022 and the circuit components. Return the feedback divider (RADJ) to this pin.", E1 GND (power) "Tie these GND pins to a local ground plane below the LTM8022 and the circuit components. Return the feedback divider (RADJ) to this pin.", E2 GND (power) "Tie these GND pins to a local ground plane below the LTM8022 and the circuit components. Return the feedback divider (RADJ) to this pin.", E3 GND (power) "Tie these GND pins to a local ground plane below the LTM8022 and the circuit components. Return the feedback divider (RADJ) to this pin.", E4 GND (power) "Tie these GND pins to a local ground plane below the LTM8022 and the circuit components. Return the feedback divider (RADJ) to this pin.", E5 GND (power) "Tie these GND pins to a local ground plane below the LTM8022 and the circuit components. Return the feedback divider (RADJ) to this pin.", E6 GND (power) "Tie these GND pins to a local ground plane below the LTM8022 and the circuit components. Return the feedback divider (RADJ) to this pin.", E7 GND (power) "Tie these GND pins to a local ground plane below the LTM8022 and the circuit components. Return the feedback divider (RADJ) to this pin.", F6 GND (power) "Tie these GND pins to a local ground plane below the LTM8022 and the circuit components. Return the feedback divider (RADJ) to this pin."